# Altium schematic symbol library ER_TFT040_1.SchLib: 1 symbol
Pins are listed as number, name and electrical type; pins without a type are passive.

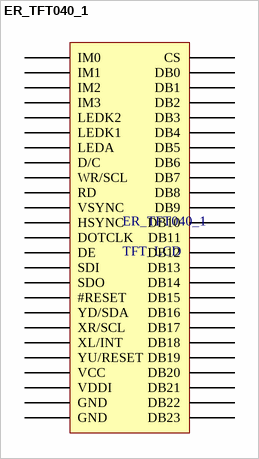
[diagram p0: symbol ER_TFT040_1]

## ER_TFT040_1
designator ER_TFT040_1, comment TFT_LCD
footprint 687150149022 (0.50mm SMT ZIF Horizontal Hinge Type Bottom Contact, 50p)
pins: 1 LEDA, 2 LEDK1, 3 LEDK2, 4 IM0, 5 IM1, 6 IM2, 7 IM3, 8 #RESET, 9 VSYNC, 10 HSYNC, 11 DOTCLK, 12 DE, 13 DB0, 14 DB1, 15 DB2, 16 DB3, 17 DB4, 18 DB5, 19 DB6, 20 DB7, 21 DB8, 22 DB9, 23 DB10, 24 DB11, 25 DB12, 26 DB13, 27 DB14, 28 DB15, 29 DB16, 30 DB17, 31 DB18, 32 DB19, 33 DB20, 34 DB21, 35 DB22, 36 DB23, 37 SDO, 38 SDI, 39 RD, 40 WR/SCL, 41 D/C, 42 CS, 43 VDDI, 44 VCC, 45 GND, 46 XR/SCL, 47 YD/SDA, 48 XL/INT, 49 YU/RESET, 50 GND